# EAGLE library part KEYBOARD (library F030NG)
PIN HEADER
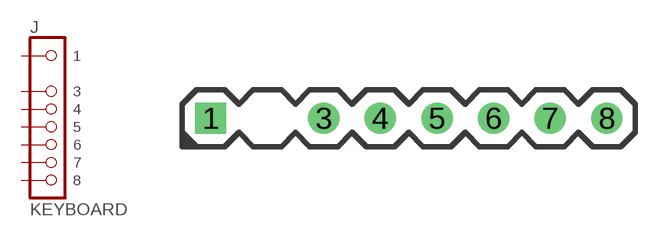
[diagram p11: symbol with the pads of PH_KEYBOARD; footprint PH_KEYBOARD]

Designator prefix J

## KEYBOARD  [PH_KEYBOARD]
1  1  pas
3  3  pas
4  4  pas
5  5  pas
6  6  pas
7  7  pas
8  8  pas

## Footprint PH_KEYBOARD (pad centres in mm)
PIN HEADER
drill 0.9 square: 1 -11.43,0
drill 0.9: 3 -6.35,0; 4 -3.81,0; 5 -1.27,0; 6 1.27,0; 7 3.81,0; 8 6.35,0